# Altium schematic symbol library Connectors.SchLib: 3 symbols
Pins are listed as number, name and electrical type; pins without a type are passive.

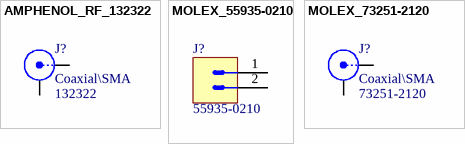
[diagram p0: symbols AMPHENOL_RF_132322 to MOLEX_73251-2120]

## AMPHENOL_RF_132322
designator J?, comment 132322  Part Type: Coaxial\SMA
RF / Coaxial Connector, SMA Coaxial, Straight Jack, Board Edge / End Launch, 50 ohm; Manufacturer: AMPHENOL RF; Gender: Female; Value: 132322; Orientation: Board Edge; Manufacturer Part Number: 132322; Supplier 1: Farnell; ComponentLink1Description: Datasheet; Date: 2020-11-06; Supplier Part Number 1: 2579819; ComponentLink1URL: https://4donline.ihs.com/images/VipMasterIC/IC/AMPH/AMPH-S-A0003204304/AMPH-S-A0003204304-1.pdf?hkey=6D3A4C79FDBF58556ACFDE234799DDF0; Mounting: SMD
footprint AMPHENOL_132322 (RF Connector SMA PCB End Launch Jack 50 Ohm)
pins: 1 RF, 2 GND, 3 GND, 4 GND, 5 GND

## MOLEX_55935-0210
designator J?, comment 55935-0210
2.00mm Pitch MicroClasp Wire-to-Board Header, Single Row, Right-Angle, 2 Circuits, with PCB Locator; Manufacturer: MOLEX; Gender: Receptacle; Pitch: 2mm; Value: 55935-0210; Orientation: Right-Angle; Mounting: THD; Manufacturer Part Number: 55935-0210; Supplier 1: Farnell; Supplier Part Number 1: 3221896; ComponentLink1Description: Datasheet; ComponentLink1URL: https://www.molex.com/webdocs/datasheets/pdf/en-us/0559350210_PCB_HEADERS.pdf; Part Type: Conector\MicroClasp
footprint MOLEX_55935-0210
pins: 1, 2

## MOLEX_73251-2120
designator J?, comment 73251-2120  Part Type: Coaxial\SMA
RF / Coaxial Connector, PCB Edge Mount, SMA Coaxial, Straight Bulkhead Jack; Manufacturer: MOLEX; Gender: Female; Value: 73251-2120; Orientation: Board Edge; Mounting: SMD; Manufacturer Part Number: 73251-2120; Supplier 1: Farnell; Supplier Part Number 1: 1909303; ComponentLink1Description: Datasheet; ComponentLink1URL: http://www.farnell.com/datasheets/2673536.pdf
footprint MOLEX_73251-2120
pins: 1 RF, 2 GND, 3 GND, 4 GND, 5 GND